# Altium schematic symbol library R1966ABLKBLKGR.SchLib: 1 symbol
Pins are listed as number, name and electrical type; pins without a type are passive.

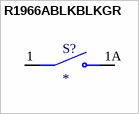
[diagram p0: symbol R1966ABLKBLKGR]

## R1966ABLKBLKGR
designator S?
MP: R1966ABLKBLKGR; MF: {'manufacturer': u'E-Switch'}; Availability: Unavailable; Value: *; Price: None; Package: None
footprint SW_R1966ABLKBLKGR
pins: 1, 1A